# EAGLE library part DRV8833_BREAKOUT (library 3872_Part_Library)
Adafruit DRV8833 stepper motor controller breakout. Info & datasheets. <https://www.adafruit.com/product/3297>
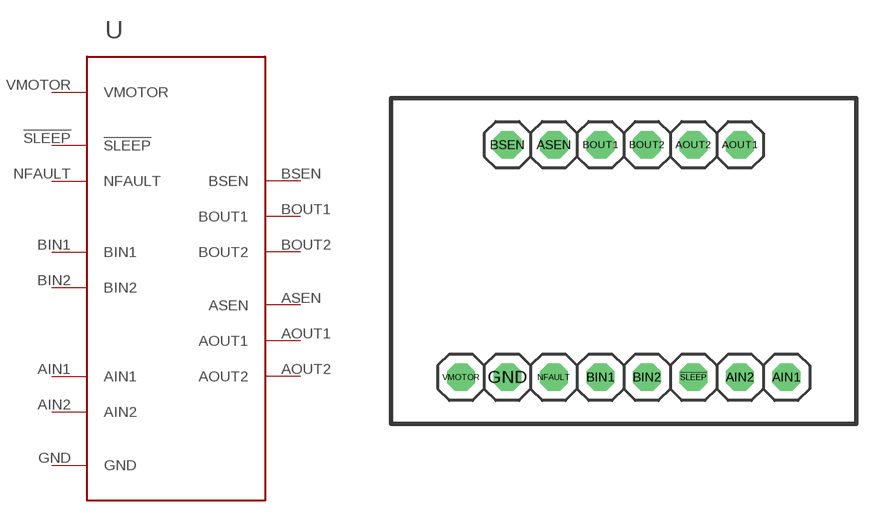
[diagram p0: symbol with the pads of DRV8833_BREAKOUT; footprint DRV8833_BREAKOUT]

Designator prefix -

## DRV8833_BREAKOUT  [DRV8833_BREAKOUT]
!SLEEP  !SLEEP
AIN1  AIN1
AIN2  AIN2
AOUT1  AOUT1
AOUT2  AOUT2
ASEN  ASEN
BIN1  BIN1
BIN2  BIN2
BOUT1  BOUT1
BOUT2  BOUT2
BSEN  BSEN
GND  GND
NFAULT  NFAULT
VMOTOR  VMOTOR

## Footprint DRV8833_BREAKOUT (pad centres in mm)
Adafruit DRV8833 stepper motor driver breakout. Info & Datasheets. <https://learn.adafruit.com/adafruit-drv8833-dc-stepper-motor-driver-breakout-board/downloads>
drill 1.016 octagon: !SLEEP 12.7,0; AIN1 17.78,0; AIN2 15.24,0; AOUT1 15.24,12.7; AOUT2 12.7,12.7; ASEN 5.08,12.7; BIN1 7.62,0; BIN2 10.16,0; BOUT1 7.62,12.7; BOUT2 10.16,12.7; BSEN 2.54,12.7; GND 2.54,0; NFAULT 5.08,0; VMOTOR 0,0